# EAGLE library part ESP8266FEATHER (library IotaWatt_parts)
Adafruit ESP8266 Feather
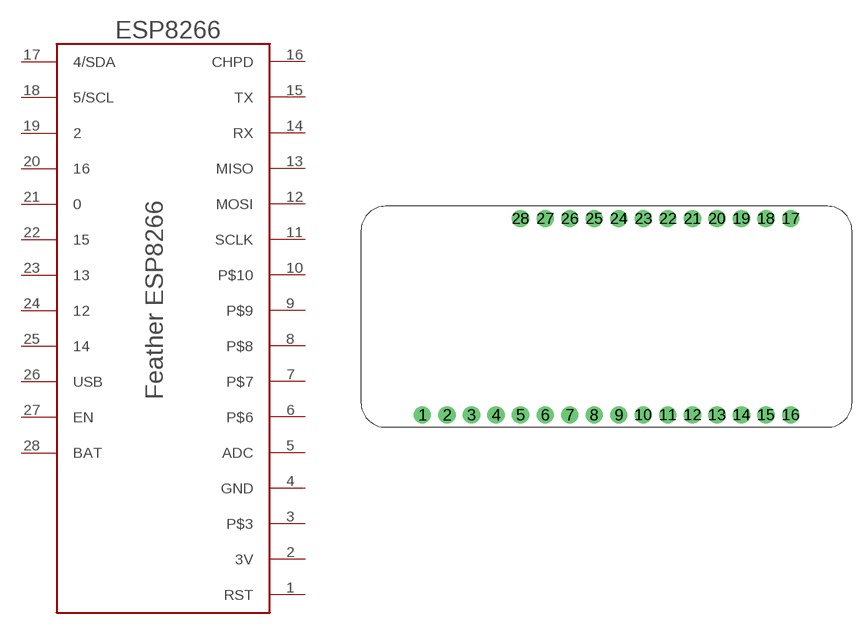
[diagram p1: symbol with the pads of FEATHERWING; footprint FEATHERWING]

Designator prefix -

## ESP8266FEATHER  [FEATHERWING]
1  RST
2  3V
3  P$3
4  GND
5  ADC
6  P$6
7  P$7
8  P$8
9  P$9
10  P$10
11  SCLK
12  MOSI
13  MISO
14  RX
15  TX
16  CHPD
17  4/SDA
18  5/SCL
19  2
20  16
21  0
22  15
23  13
24  12
25  14
26  USB
27  EN
28  BAT

## Footprint FEATHERWING (pad centres in mm)
drill 1 pad 1.778: 1 6.35,1.27; 2 8.89,1.27; 3 11.43,1.27; 4 13.97,1.27; 5 16.51,1.27; 6 19.05,1.27; 7 21.59,1.27; 8 24.13,1.27; 9 26.67,1.27; 10 29.21,1.27; 11 31.75,1.27; 12 34.29,1.27; 13 36.83,1.27; 14 39.37,1.27; 15 41.91,1.27; 16 44.45,1.27; 17 44.45,21.59; 18 41.91,21.59; 19 39.37,21.59; 20 36.83,21.59; 21 34.29,21.59; 22 31.75,21.59; 23 29.21,21.59; 24 26.67,21.59; 25 24.13,21.59; 26 21.59,21.59; 27 19.05,21.59; 28 16.51,21.59